# Altium footprint library Trans_Infineon_IRLML2402TRPBF_eec_IPC_C.PcbLib: 1 footprints
Each footprint in its own frame and in the unit in brackets; x right, y up, seen from the top. Pads: shape width x height; smd on the part's side, far side on the other; paste and mask are expansions set on the pad; w line width, h text height; cw(c..) or ccw(c..) is an arc to the next point about the centre after c.
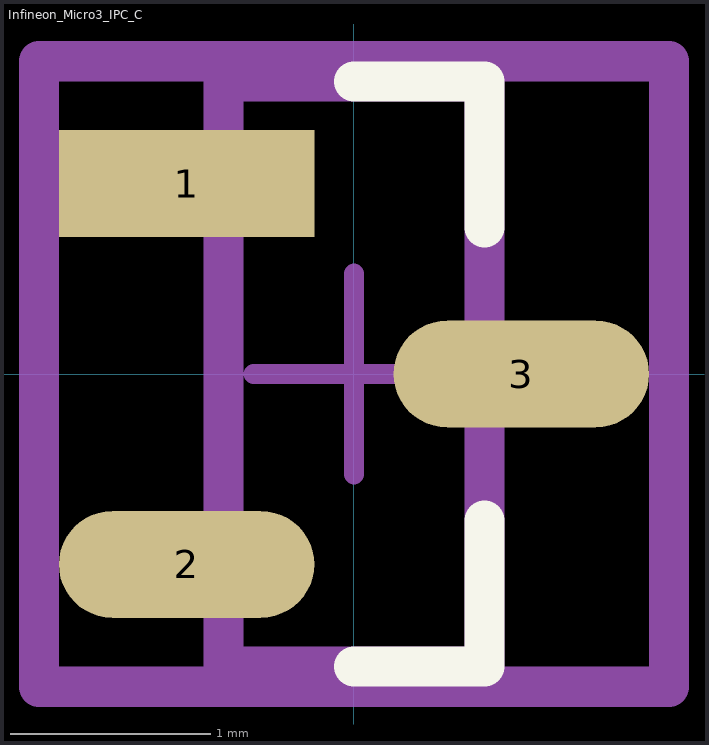
[diagram p0: the footprint, top view; thin cyan lines are the x and y axes]

## Infineon_Micro3_IPC_C [mm]
pads (3):
  rect 1.274x0.532 smd paste+0 mask+0: 1(-0.835,0.95)
  rrect100% 1.274x0.532 smd paste+0 mask+0: 2(-0.835,-0.95) 3(0.835,0)
Top Overlay:
  lines w0.2: 0,-1.46 0.65,-1.46 0.65,-0.73 ; 0,1.46 0.65,1.46 0.65,0.73
Mechanical 10:
  lines w0.2: -1.572,-1.56 1.572,-1.56 1.572,1.56 -1.572,1.56 -1.572,-1.56
  text ".Designator" at 0,0 h1
Mechanical 12:
  lines w0.2: -0.65,-1.46 0.65,-1.46 0.65,1.46 -0.65,1.46 -0.65,-1.46
Mechanical 15:
  lines w0.1: -0.5,0 0.5,0 ; 0,-0.5 0,0.5
  lines w0.2: -1.572,-1.56 1.572,-1.56 1.572,1.56 -1.572,1.56 -1.572,-1.56
3D body "Trans_Infineon_IRLML2402TRPBF_eec.STEP": height 0.25, standoff 0, extent -1.572,-1.56 1.572,1.56